# EAGLE library part WE-LAN_10/100_BASETX_749010014 (library Wuerth_Elektronik_eiSos_ v6.0)
LAN-Transformer WE-LAN 10/100 Base Tx - Compliant with IEEE 802.3 standards - SMD -- Ethernet -- Power over Ethernet -- 1 Gigabit Ethernet -- Compliant with most IC's for ethernet applications like Intel, AMD, Globespan and Realtek -- Hub, Router, Switch
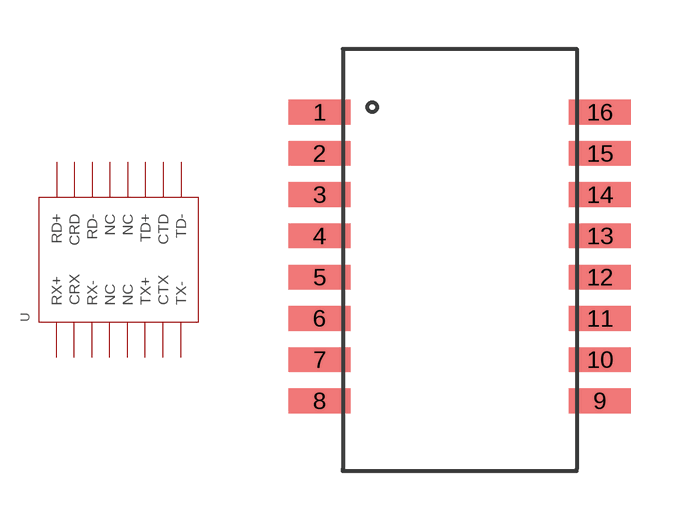
[diagram p20: symbol with the pads of WE-LAN_10/100_BASETX_749010014; footprint WE-LAN_10/100_BASETX_749010014]

Designator prefix -

## WE-LAN_10/100_BASETX_749010014  [WE-LAN_10/100_BASETX_749010014]
1  RX+  pas
2  CRX  pas
3  RX-  pas
4  NC  pas
5  NC  pas
6  TX+  pas
7  CTX  pas
8  TX-  pas
9  TD-  pas
10  CTD  pas
11  TD+  pas
12  NC  pas
13  NC  pas
14  RD-  pas
15  CRD  pas
16  RD+  pas

## Footprint WE-LAN_10/100_BASETX_749010014 (pad centres in mm)
WE-LAN 10/100 BaseTx
smd 1.91 x 0.76: 1 -4.317,4.445; 2 -4.317,3.175; 3 -4.317,1.905; 4 -4.317,0.635; 5 -4.317,-0.635; 6 -4.317,-1.905; 7 -4.317,-3.175; 8 -4.317,-4.445; 9 4.317,-4.445; 10 4.317,-3.175; 11 4.317,-1.905; 12 4.317,-0.635; 13 4.317,0.635; 14 4.317,1.905; 15 4.317,3.175; 16 4.317,4.445